# Altium integrated library ATMEGA32U4-MU.IntLib: 1 symbol
Pins are listed as number, name and electrical type; pins without a type are passive.

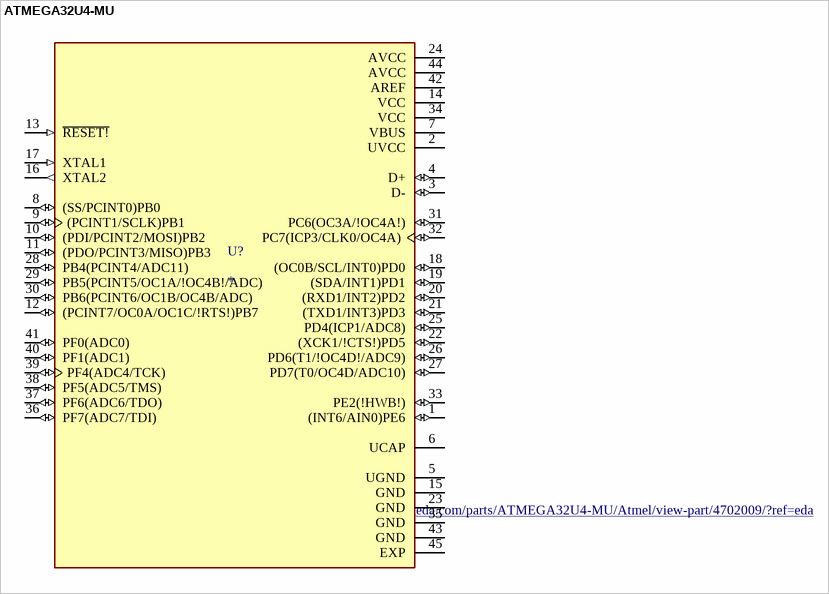
[diagram p0: symbol ATMEGA32U4-MU]

## ATMEGA32U4-MU
designator U?
AVR AVRÂ® ATmega Microcontroller IC 8-Bit 16MHz 32KB (16K x 16) FLASH 44-VQFN (7x7); MF: Microchip Technology / Atmel; MP: ATMEGA32U4-MU; Value: *; SnapEDA_Link: https://www.snapeda.com/parts/ATMEGA32U4-MU/Atmel/view-part/4702009/?ref=snap; Purchase-URL: https://pricing.snapeda.com/search/part/ATMEGA32U4-MU/?ref=eda; Price: None; Availability: Good; Package: VFQFN-44 Microchip Technology / Atmel; Check_prices: https://www.snapeda.com/parts/ATMEGA32U4-MU/Atmel/view-part/4702009/?ref=eda
footprint QFN50P700X700X100-45N
pins: 1 (INT6/AIN0)PE6 (io), 2 UVCC (power), 3 D- (io), 4 D+ (io), 5 UGND (power), 6 UCAP, 7 VBUS (power), 8 (SS/PCINT0)PB0 (io), 9 (PCINT1/SCLK)PB1 (io), 10 (PDI/PCINT2/MOSI)PB2 (io), 11 (PDO/PCINT3/MISO)PB3 (io), 12 (PCINT7/OC0A/OC1C/!RTS!)PB7 (io), 13 ~{RESET!} (in), 14 VCC (power), 15 GND (power), 16 XTAL2 (out), 17 XTAL1 (in), 18 (OC0B/SCL/INT0)PD0 (io), 19 (SDA/INT1)PD1 (io), 20 (RXD1/INT2)PD2 (io), 21 (TXD1/INT3)PD3 (io), 22 (XCK1/!CTS!)PD5 (io), 23 GND (power), 24 AVCC (power), 25 PD4(ICP1/ADC8) (io), 26 PD6(T1/!OC4D!/ADC9) (io), 27 PD7(T0/OC4D/ADC10) (io), 28 PB4(PCINT4/ADC11) (io), 29 PB5(PCINT5/OC1A/!OC4B!/ADC) (io), 30 PB6(PCINT6/OC1B/OC4B/ADC) (io), 31 PC6(OC3A/!OC4A!) (io), 32 PC7(ICP3/CLK0/OC4A) (io), 33 PE2(!HWB!) (io), 34 VCC (power), 35 GND (power), 36 PF7(ADC7/TDI) (io), 37 PF6(ADC6/TDO) (io), 38 PF5(ADC5/TMS) (io), 39 PF4(ADC4/TCK) (io), 40 PF1(ADC1) (io), 41 PF0(ADC0) (io), 42 AREF (power), 43 GND (power), 44 AVCC (power), 45 EXP